# Altium schematic symbol library ANALOG_LIB.SchLib: 4 symbols
Pins are listed as number, name and electrical type; pins without a type are passive.

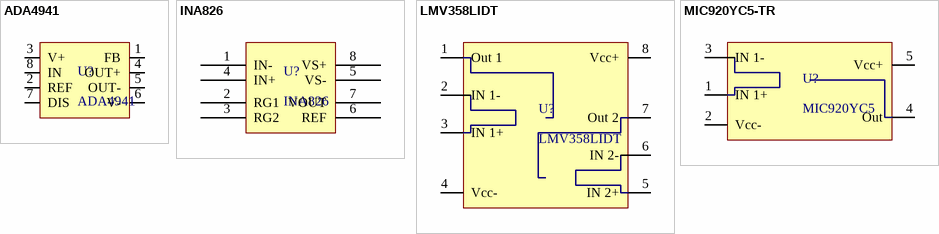
[diagram p0: symbols ADA4941 to MIC920YC5-TR]

## ADA4941
designator U?
ADC Driver IC Data Acquisition 8-SOIC
footprint INA826
pins: 1 FB, 2 REF, 3 V+, 4 OUT+, 5 OUT-, 6 V-, 7 DIS, 8 IN

## INA826
designator U?
footprint INA826
pins: 1 IN-, 2 RG1, 3 RG2, 4 IN+, 5 VS-, 6 REF, 7 VOUT, 8 VS+

## LMV358LIDT
designator U?
General Purpose Amplifier 2 Circuit Rail-to-Rail 8-SO
footprint LMV358LIDT (SOIC, 8-Leads, Body 4.90x3.90mm, Pitch 1.27mm, IPC Medium Density)
pins: 1 Out 1, 2 IN 1-, 3 IN 1+, 4 Vcc-, 5 IN 2+, 6 IN 2-, 7 Out 2, 8 Vcc+

## MIC920YC5-TR
designator U?, comment MIC920YC5
General Purpose Amplifier 1 Circuit SC-70-5
footprint MIC920 (General Purpose Amplifier 1 Circuit SC-70-5)
pins: 1 IN 1+, 2 Vcc-, 3 IN 1-, 4 Out, 5 Vcc+